# Altium schematic symbol library LibreariasUniversalesMatuTorres.SchLib: 43 symbols
Pins are listed as number, name and electrical type; pins without a type are passive.

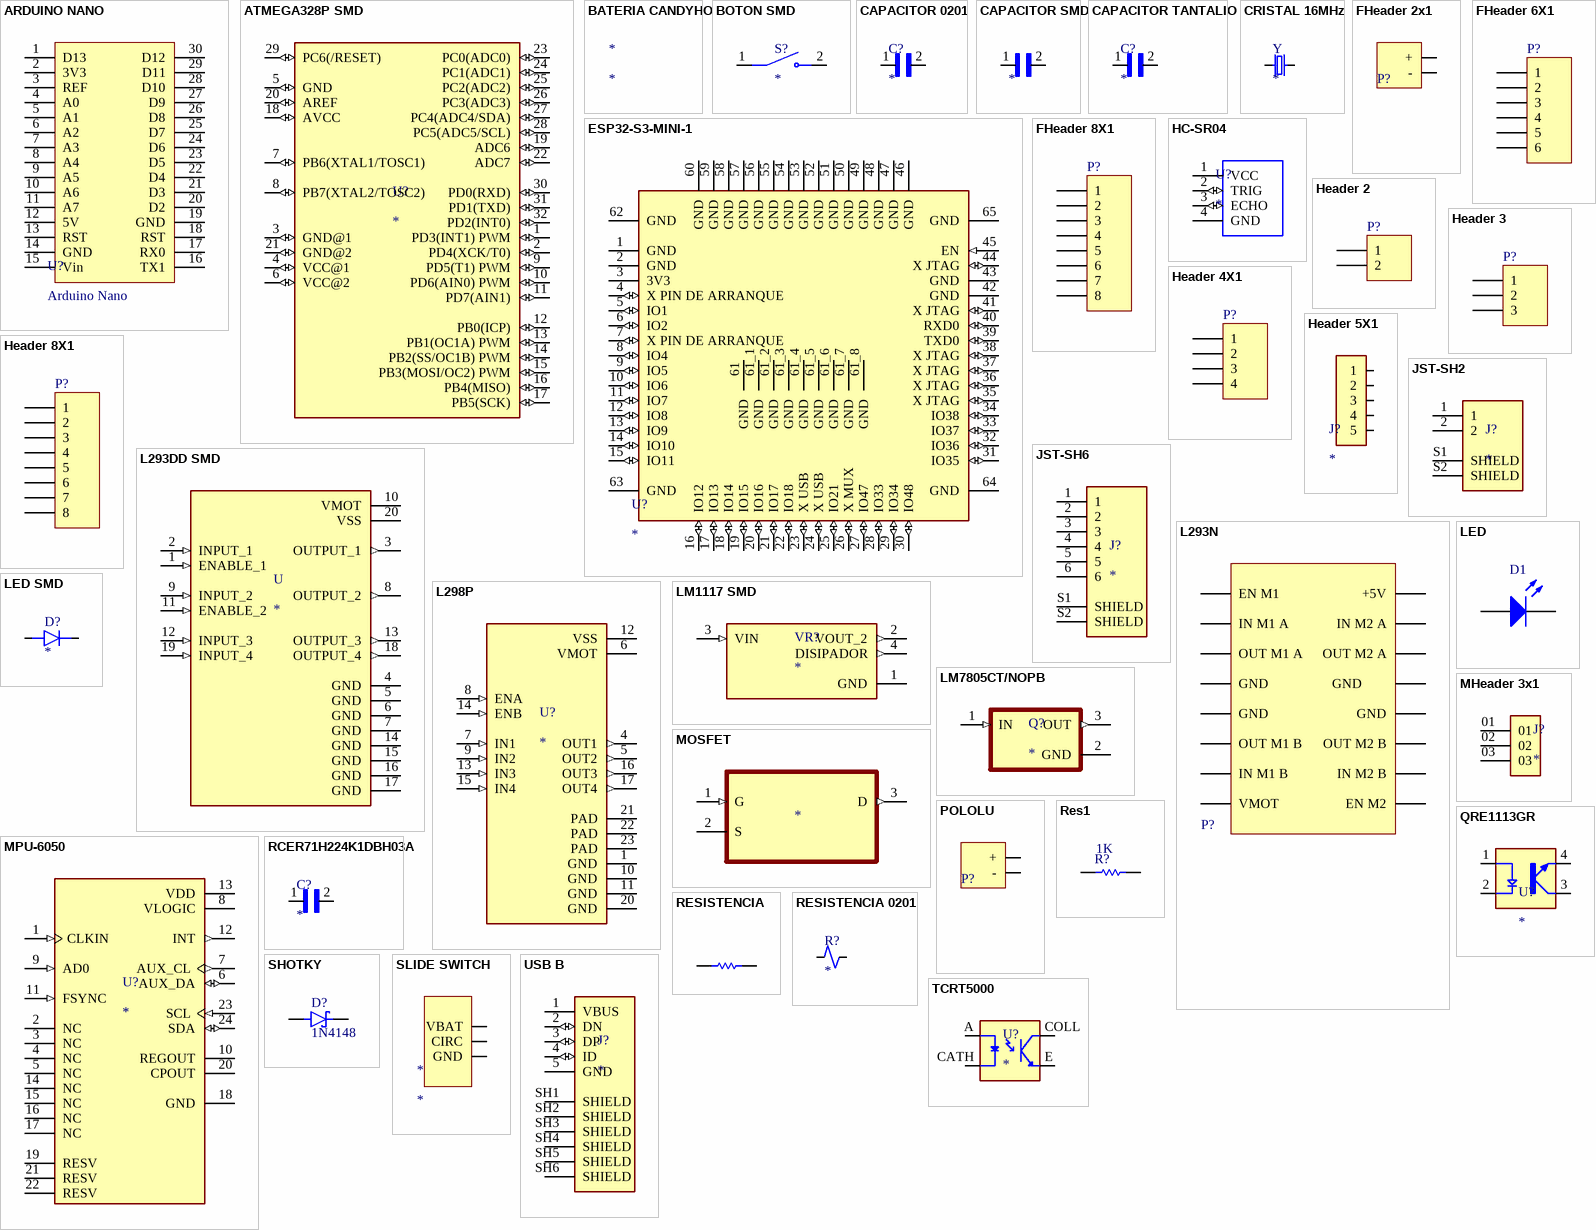
[diagram p0: symbols ARDUINO NANO to USB B]

## ARDUINO NANO
designator U?, comment Arduino Nano
footprint Arduino nano
pins: 1 D13, 2 3V3, 3 REF, 4 A0, 5 A1, 6 A2, 7 A3, 8 A4, 9 A5, 10 A6, 11 A7, 12 5V, 13 RST, 14 GND, 15 Vin, 16 TX1, 17 RX0, 18 RST, 19 GND, 20 D2, 21 D3, 22 D4, 23 D5, 24 D6, 25 D7, 26 D8, 27 D9, 28 D10, 29 D11, 30 D12

## ATMEGA328P SMD
designator U?
MF: Microchip; MP: ATMEGA8A-AU; Value: *; Purchase-URL: https://pricing.snapeda.com/search/part/ATMEGA8A-AU/?ref=eda; Check_prices: https://www.snapeda.com/parts/ATMEGA8A-AU/Microchip/view-part/49714/?ref=eda; SnapEDA_Link: https://www.snapeda.com/parts/ATMEGA8A-AU/Microchip/view-part/49714/?ref=snap; Package: TQFP-32 Microchip; Availability: Good; Price: None
footprint ATMEGA328P SMD
pins: 1 PD3(INT1) PWM (io), 2 PD4(XCK/T0) (io), 3 GND@1 (io), 4 VCC@1 (io), 5 GND (io), 6 VCC@2 (io), 7 PB6(XTAL1/TOSC1) (io), 8 PB7(XTAL2/TOSC2) (io), 9 PD5(T1) PWM (io), 10 PD6(AIN0) PWM (io), 11 PD7(AIN1) (io), 12 PB0(ICP) (io), 13 PB1(OC1A) PWM (io), 14 PB2(SS/OC1B) PWM (io), 15 PB3(MOSI/OC2) PWM (io), 16 PB4(MISO) (io), 17 PB5(SCK) (io), 18 AVCC (io), 19 ADC6 (io), 20 AREF (io), 21 GND@2 (io), 22 ADC7 (io), 23 PC0(ADC0) (io), 24 PC1(ADC1) (io), 25 PC2(ADC2) (io), 26 PC3(ADC3) (io), 27 PC4(ADC4/SDA) (io), 28 PC5(ADC5/SCL) (io), 29 PC6(/RESET) (io), 30 PD0(RXD) (io), 31 PD1(TXD) (io), 32 PD2(INT0) (io)

## BATERIA CANDYHO
designator *
footprint BATERIA V3 CANDY

## BOTON SMD
designator S?
MP: TS09-63-25-WT-160-SMT-TR; Price: None; Availability: Unavailable; Package: None; Value: *
footprint BOTON SMD
pins: 1, 2

## CAPACITOR 0201
designator C?
MP: GRM0115C1E101JE01L; Package: None; Price: None; Value: *; Availability: Unavailable
footprint CAPACITOR 0201
pins: 1, 2

## CAPACITOR SMD
designator ?
0805; MP: GRM035R60J475ME15D; MF: Murata; Value: *; DigiKey-Purchase-URL: https://snapeda.com/shop?store=DigiKey&id=1181520; Package: 0603 Murata; SnapEDA_Link: https://www.snapeda.com/parts/GRM035R60J475ME15D/Murata%20Electronics%20North%20America/view-part/1181520/?ref=snap; Mouser-Purchase-URL: https://snapeda.com/shop?store=Mouser&id=1181520; Digi-Key_Part_Number: 490-13230-1-ND
footprint CAPACITOR SMD
pins: 1, 2

## CAPACITOR TANTALIO
designator C?
0805; MP: GRM035R60J475ME15D; MF: Murata; Value: *; DigiKey-Purchase-URL: https://snapeda.com/shop?store=DigiKey&id=1181520; Package: 0603 Murata; SnapEDA_Link: https://www.snapeda.com/parts/GRM035R60J475ME15D/Murata%20Electronics%20North%20America/view-part/1181520/?ref=snap; Mouser-Purchase-URL: https://snapeda.com/shop?store=Mouser&id=1181520; Digi-Key_Part_Number: 490-13230-1-ND
footprint CAPACITOR TANTALIO (0805)
pins: 1, 2

## CRISTAL 16MHz
designator Y
MF: ECS Inc.; MP: ECS-160-18-5PX-TR; Price: None; Value: *; Package: HC49/US ECS International; SnapEDA_Link: https://www.snapeda.com/parts/ECS-160-18-5PX-TR/ECS%20Inc./view-part/2461424/?ref=snap; DigiKey-Purchase-URL: https://snapeda.com/shop?store=DigiKey&id=2461424; Mouser-Purchase-URL: https://snapeda.com/shop?store=Mouser&id=2461424; Availability: Warning
footprint CRISTAL 16MHz
pins: 1, 2

## ESP32-S3-MINI-1
designator U?
MF: Espressif Systems; MP: ESP32-S3-MINI-1-N8; Package: None; Price: None; Check_prices: https://www.snapeda.com/parts/ESP32-S3-MINI-1-N8/Espressif+Systems/view-part/?ref=eda; Value: *; SnapEDA_Link: https://www.snapeda.com/parts/ESP32-S3-MINI-1-N8/Espressif+Systems/view-part/?ref=snap; Availability: In Stock; Purchase-URL: https://pricing.snapeda.com/search?q=ESP32-S3-MINI-1-N8&ref=eda
footprint ESP32-S3-MINI-1
pins: 1 GND (power), 2 GND (power), 3 3V3 (power), 4 X PIN DE ARRANQUE (io), 5 IO1 (io), 6 IO2 (io), 7 X PIN DE ARRANQUE (io), 8 IO4 (io), 9 IO5 (io), 10 IO6 (io), 11 IO7 (io), 12 IO8 (io), 13 IO9 (io), 14 IO10 (io), 15 IO11 (io), 16 IO12 (io), 17 IO13 (io), 18 IO14 (io), 19 IO15 (io), 20 IO16 (io), 21 IO17 (io), 22 IO18 (io), 23 X USB (io), 24 X USB (io), 25 IO21 (io), 26 X MUX (io), 27 IO47 (io), 28 IO33 (io), 29 IO34 (io), 30 IO48 (io), 31 IO35 (io), 32 IO36 (io), 33 IO37 (io), 34 IO38 (io), 35 X JTAG (io), 36 X JTAG (io), 37 X JTAG (io), 38 X JTAG (io), 39 TXD0 (io), 40 RXD0 (io), 41 X JTAG (io), 42 GND (power), 43 GND (power), 44 X JTAG (io), 45 EN (in), 46 GND (power), 47 GND (power), 48 GND (power), 49 GND (power), 50 GND (power), 51 GND (power), 52 GND (power), 53 GND (power), 54 GND (power), 55 GND (power), 56 GND (power), 57 GND (power), 58 GND (power), 59 GND (power), 60 GND (power), 61 GND (power), 61_1 GND (power), 61_2 GND (power), 61_3 GND (power), 61_4 GND (power), 61_5 GND (power), 61_6 GND (power), 61_7 GND (power), 61_8 GND (power), 62 GND (power), 63 GND (power), 64 GND (power), 65 GND (power)

## FHeader 2x1
designator P?
LatestRevisionDate: 17-Jul-2002; LatestRevisionNote: Re-released for DXP Platform.; Publisher: Altium Limited
footprint HEADER x2
pins: +, -

## FHeader 6X1
designator P?
LatestRevisionDate: 17-Jul-2002; LatestRevisionNote: Re-released for DXP Platform.; Publisher: Altium Limited
footprint FHDR1X6
pins: 1, 2, 3, 4, 5, 6

## FHeader 8X1
designator P?
LatestRevisionDate: 17-Jul-2002; LatestRevisionNote: Re-released for DXP Platform.; Publisher: Altium Limited
footprint FHDR1X8 (Connector; Header; 8 Position)
pins: 1, 2, 3, 4, 5, 6, 7, 8

## HC-SR04
designator U?
Ultrasonic Sensor Module; MP: HC-SR04; Availability: Unavailable; Value: *; Price: None; Package: None
footprint XCVR_HC-SR04
pins: 1 VCC (power), 2 TRIG (io), 3 ECHO (io), 4 GND (power)

## Header 2
designator P?
Header, 2-Pin; LatestRevisionDate: 17-Jul-2002; LatestRevisionNote: Re-released for DXP Platform.; Publisher: Altium Limited
footprint HDR1X2 (Connector; Header; 2 Position)
signal-integrity model Connector
pins: 1, 2

## Header 3
designator P?
Header, 3-Pin; LatestRevisionDate: 17-Jul-2002; LatestRevisionNote: Re-released for DXP Platform.; Publisher: Altium Limited
footprint HDR1X3 (Connector; Header; 3 Position)
signal-integrity model Connector
pins: 1, 2, 3

## Header 4X1
designator P?
LatestRevisionDate: 17-Jul-2002; LatestRevisionNote: Re-released for DXP Platform.; Publisher: Altium Limited
footprint HDR1X4 (Connector; Header; 4 Position)
pins: 1, 2, 3, 4

## Header 5X1
designator J?
MF: Samtec; MP: TSW-105-23-L-S; Package: None; Value: *; SnapEDA_Link: https://www.snapeda.com/parts/TSW-105-23-L-S/Samtec/view-part/?ref=snap; Check_prices: https://www.snapeda.com/parts/TSW-105-23-L-S/Samtec/view-part/?ref=eda; Purchase-URL: https://pricing.snapeda.com/search/part/TSW-105-23-L-S/?ref=eda; Digi-Key_Part_Number: SAM1071-05-ND
footprint HEADER 5X1
pins: 1, 2, 3, 4, 5

## Header 8X1
designator P?
LatestRevisionDate: 17-Jul-2002; LatestRevisionNote: Re-released for DXP Platform.; Publisher: Altium Limited
footprint HDR1X8 (Connector; Header; 8 Position)
pins: 1, 2, 3, 4, 5, 6, 7, 8

## JST-SH2
designator J?
MP: BM02B-SRSS-TB(LF)(SN); Package: None; Price: None; Value: *; Availability: Unavailable
footprint JST-SH2
pins: 1, 2, S1 SHIELD, S2 SHIELD

## JST-SH6
designator J?
MP: BM06B-SRSS-TB(LF)(SN); Package: None; Price: None; Value: *; Availability: Unavailable
footprint JST-SH6
pins: 1, 2, 3, 4, 5, 6, S1 SHIELD, S2 SHIELD

## L293DD SMD
designator U
MP: L293DD; MF: STMicroelectronics; Package: SOIC-20 STMicroelectronics; SnapEDA_Link: https://www.snapeda.com/parts/L293DD/STMicroelectronics/view-part/585585/?ref=snap; Value: *; Availability: Unavailable; Price: None
footprint L293D SMD
pins: 1 ENABLE_1 (in), 2 INPUT_1 (in), 3 OUTPUT_1 (out), 4 GND (power), 5 GND (power), 6 GND (power), 7 GND (power), 8 OUTPUT_2 (out), 9 INPUT_2 (in), 10 VMOT (power), 11 ENABLE_2 (in), 12 INPUT_3 (in), 13 OUTPUT_3 (out), 14 GND (power), 15 GND (power), 16 GND (power), 17 GND (power), 18 OUTPUT_4 (out), 19 INPUT_4 (in), 20 VSS (power)

## L293N
designator P?
LatestRevisionDate: 17-Jul-2002; LatestRevisionNote: Re-released for DXP Platform.; Publisher: Altium Limited
footprint L293N (DIP, 16-Leads, Row Spacing 7.62mm, Pitch 2.54mm, Body 20.07x6.73mm)
pins: 1 EN M1, 2 IN M1 A, 3 OUT M1 A, 4 GND, 5 GND, 6 OUT M1 B, 7 IN M1 B, 8 VMOT, 9 EN M2, 10 IN M2 B, 11 OUT M2 B, 12 GND, 13 GND       , 14 OUT M2 A, 15 IN M2 A, 16 +5V

## L298P
designator U?
MP: L298P; MF: STMicroelectronics; Value: *; SnapEDA_Link: https://www.snapeda.com/parts/L298P/STMicroelectronics/view-part/?ref=snap; Package: SO-20 STMicroelectronics; Check_prices: https://www.snapeda.com/parts/L298P/STMicroelectronics/view-part/?ref=eda; Digi-Key_Part_Number: 497-1396-5-ND; Purchase-URL: https://pricing.snapeda.com/search/part/L298P/?ref=eda
footprint L298 SMD
pins: 1 GND, 4 OUT1 (out), 5 OUT2 (out), 6 VMOT (power), 7 IN1 (in), 8 ENA (in), 9 IN2 (in), 10 GND, 11 GND, 12 VSS (power), 13 IN3 (in), 14 ENB (in), 15 IN4 (in), 16 OUT3 (out), 17 OUT4 (out), 20 GND, 21 PAD, 22 PAD, 23 PAD

## LED
designator D1
Published: 8-Jun-2000; LatestRevisionDate: 08-Jul-2005; LatestRevisionNote: Mech Layer 1 removed.; PackageReference: LED-0; Publisher: Altium Limited; PackageDescription: LED; 2 Leads
footprint LED
pins: 0 A, 1 K

## LED SMD
designator D?
0805; MP: 597-5311-402F; Package: None; Price: None; Value: *; Availability: Unavailable
footprint LED SMD (0805)
pins: A, C

## LM1117 SMD
designator VR?
MP: LM1117MPX-3.3; MF: Texas Instruments; Check_prices: https://www.snapeda.com/parts/LM1117MPX-3.3/Texas+Instruments/view-part/?ref=eda; Value: *; Availability: In Stock; Price: None; Package: SOT-223-4 Texas Instruments; SnapEDA_Link: https://www.snapeda.com/parts/LM1117MPX-3.3/Texas+Instruments/view-part/?ref=snap; Purchase-URL: https://pricing.snapeda.com/search/part/LM1117MPX-3.3/?ref=eda
footprint LM1117 SMD
pins: 1 GND (power), 2 VOUT_2 (out), 3 VIN (in), 4 DISIPADOR (out)

## LM7805CT/NOPB
designator Q?
Linear Voltage Regulator IC Positive Fixed 1 Output 1.5A TO-220-3; MF: ON Semiconductor; MP: LM7805CT; Purchase-URL: https://pricing.snapeda.com/search/part/LM7805CT/?ref=eda; Check_prices: https://www.snapeda.com/parts/LM7805CT/Onsemi/view-part/?ref=eda; SnapEDA_Link: https://www.snapeda.com/parts/LM7805CT/Onsemi/view-part/?ref=snap; Price: None; Availability: In Stock; Package: TO-220-3 ON Semiconductor; Value: *
footprint TO254P1054X470X2600-3
pins: 1 IN (in), 2 GND (power), 3 OUT (out)

## MHeader 3x1
designator J?
MP: TS-103-T-A-1; MF: Samtec; Check_prices: https://www.snapeda.com/parts/TS-103-T-A-1/Samtec/view-part/?ref=eda; Value: *; Availability: In Stock; Price: None; Package: None; SnapEDA_Link: https://www.snapeda.com/parts/TS-103-T-A-1/Samtec/view-part/?ref=snap; Purchase-URL: https://pricing.snapeda.com/search/part/TS-103-T-A-1/?ref=eda
footprint MHeader 3x1
pins: 01, 02, 03

## MOSFET
designator ?
MF: Infineon Technologies; MP: IRLML6344TRPBF; SnapEDA_Link: https://www.snapeda.com/parts/IRLML6344TRPBF/Infineon/view-part/?ref=snap; Package: SOT-23-3 ON Semiconductor; Value: *; Check_prices: https://www.snapeda.com/parts/IRLML6344TRPBF/Infineon/view-part/?ref=eda
footprint MOSFET
pins: 1 G (in), 2 S, 3 D (out)

## MPU-6050
designator U?
MF: TDK InvenSense; SnapEDA_Link: https://www.snapeda.com/parts/MPU-6050/TDK+InvenSense/view-part/?ref=snap; Package: QFN-24 InvenSense; Value: *; MP: MPU-6050; Check_prices: https://www.snapeda.com/parts/MPU-6050/TDK+InvenSense/view-part/?ref=eda
footprint MPU-6050
pins: 1 CLKIN (in), 2 NC, 3 NC, 4 NC, 5 NC, 6 AUX_DA (io), 7 AUX_CL (out), 8 VLOGIC (power), 9 AD0 (in), 10 REGOUT, 11 FSYNC (in), 12 INT (out), 13 VDD (power), 14 NC, 15 NC, 16 NC, 17 NC, 18 GND (power), 19 RESV, 20 CPOUT, 21 RESV, 22 RESV, 23 SCL (in), 24 SDA (io)

## POLOLU
designator P?
LatestRevisionDate: 17-Jul-2002; LatestRevisionNote: Re-released for DXP Platform.; Publisher: Altium Limited
footprint MOTOR
pins: +, -

## QRE1113GR
designator U?
MF: ON Semiconductor; MP: QRE1113GR; Package: ARUSM-313-4 ON Semiconductor; Price: None; Check_prices: https://www.snapeda.com/parts/QRE1113GR/Onsemi/view-part/?ref=eda; Value: *; SnapEDA_Link: https://www.snapeda.com/parts/QRE1113GR/Onsemi/view-part/?ref=snap; Availability: In Stock; Purchase-URL: https://pricing.snapeda.com/search/part/QRE1113GR/?ref=eda
footprint QRE1113GR
pins: 1 A, 2 C, 3 ET, 4 CT

## RCER71H224K1DBH03A
designator C?
CAP CER 4700PF 50V C0G/NP0 RAD; MP: RCER71H224K1DBH03A; Package: None; Price: None; Value: *; Availability: Unavailable
footprint CAP_RCER71H224K1DBH03A
pins: 1, 2

## Res1
designator R?  value 1K
Resistor; Published: 8-Jun-2000; LatestRevisionDate: 17-Jul-2002; LatestRevisionNote: Re-released for DXP Platform.; PackageReference: AXIAL-0.3; Publisher: Altium Limited; PackageDescription: Axial Device, Thru-Hole; 2 Leads; 0.3 in Pin Spacing
simulation model RESISTOR (Resistor)
signal-integrity model Res
footprint Res1
pins: 1, 2

## RESISTENCIA
designator ?, comment Res1  (value not drawn)
0805; Value: 3KΩ; Published: 8-Jun-2000; LatestRevisionDate: 17-Jul-2002; LatestRevisionNote: Re-released for DXP Platform.; PackageReference: AXIAL-0.3; Publisher: Altium Limited; PackageDescription: Axial Device, Thru-Hole; 2 Leads; 0.3 in Pin Spacing
footprint RESISTENCIA SMD (0805)
pins: 1, 2

## RESISTENCIA 0201
designator R?
MP: ERJU01J753C; Availability: Unavailable; Price: None; Value: *; Package: None
footprint RESISTENCIA 0201
pins: 1, 2

## SHOTKY
designator D?, comment 1N4148
1A, 40V, Schottky Rectifier; MF: Taiwan Semiconductor; MP: SS14; SnapEDA_Link: https://www.snapeda.com/parts/SS14/taiwan/view-part/?ref=snap; Package: SMA-2 Taiwan Semiconductor; Value: *; Check_prices: https://www.snapeda.com/parts/SS14/taiwan/view-part/?ref=eda
footprint SHOTKY (SMD)
pins: A, K

## SLIDE SWITCH
designator *
footprint Slide Switch
footprint SLIDE SWITCH DE COSTADO
pins: 0 VBAT, 1 CIRC, 2 GND

## TCRT5000
designator U?
950 nm 60 mA Through Hole Reflective Optical Sensor with Transistor Output; MP: TCRT5000; Availability: Unavailable; Value: *; Price: None; Package: None
footprint OPTO_TCRT5000
pins: A, CATH, COLL, E

## USB B
designator J?
MP: 2013499-1; Package: None; Price: None; Value: *; Availability: Unavailable
footprint USB B
pins: 1 VBUS (power), 2 DN (io), 3 DP (io), 4 ID (io), 5 GND (power), SH1 SHIELD, SH2 SHIELD, SH3 SHIELD, SH4 SHIELD, SH5 SHIELD, SH6 SHIELD

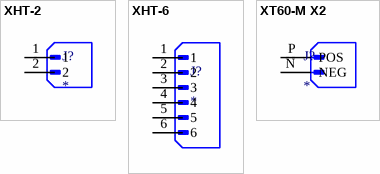
[diagram p1: symbols XHT-2 to XT60-M X2]

## XHT-2
designator J?
MF: {'manufacturer': u'JST Sales America Inc.'}; MP: B2B-XH-A; Package: None; Price: None; Value: *; Availability: Unavailable
footprint XHT-2
pins: 1, 2

## XHT-6
designator J?
Connector Header Through Hole 6 position 0.098 (2.50mm); MF: JST Sales; MP: B6B-XH-A(LF)(SN); SnapEDA_Link: https://www.snapeda.com/parts/B6B-XH-A(LF)(SN)/JST+Sales+America+Inc./view-part/?ref=snap; Package: None; Value: *; Check_prices: https://www.snapeda.com/parts/B6B-XH-A(LF)(SN)/JST+Sales+America+Inc./view-part/?ref=eda
footprint XHT-6
pins: 1, 2, 3, 4, 5, 6

## XT60-M X2
designator J?
MF: AMASS; MP: XT60-M; SnapEDA_Link: https://www.snapeda.com/parts/XT60-M/AMASS/view-part/?ref=snap; Package: Package; Value: *; Check_prices: https://www.snapeda.com/parts/XT60-M/AMASS/view-part/?ref=eda
footprint AMASS_XT60-M
pins: N NEG, P POS